# EAGLE library part SIM908 (library sim908)
SIMcom GSM/GPS module
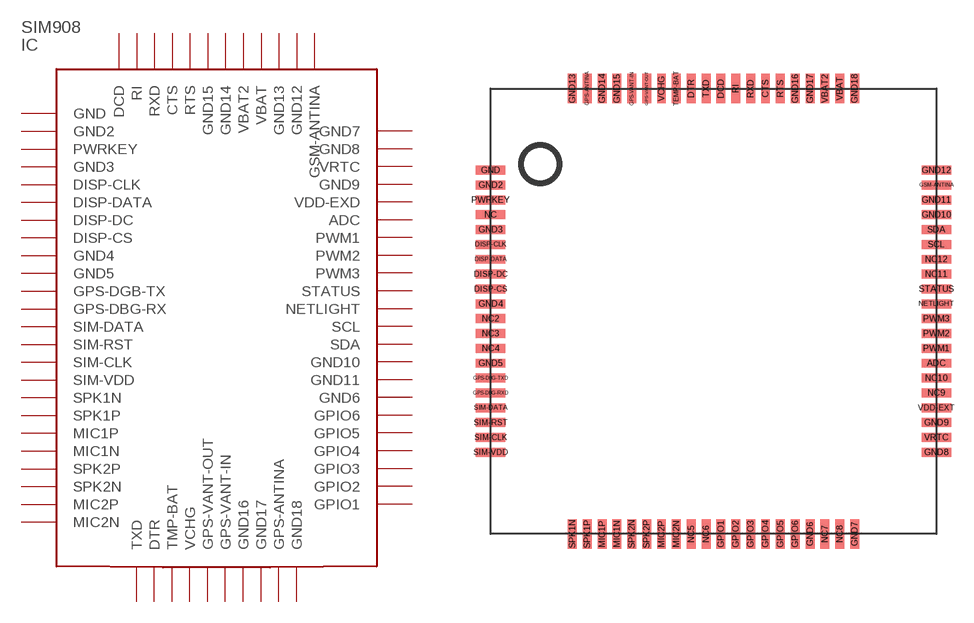
[diagram p0: symbol with the pads of SIM908; footprint SIM908]

Designator prefix IC

## SIM908  [SIM908]
ADC  ADC
CTS  CTS
DCD  DCD
DISP-CLK  DISP-CLK
DISP-CS  DISP-CS
DISP-DATA  DISP-DATA
DISP-DC  DISP-DC
DTR  DTR
GND  GND
GND2  GND2
GND3  GND3
GND4  GND4
GND5  GND5
GND6  GND6
GND7  GND7
GND8  GND8
GND9  GND9
GND10  GND10
GND11  GND11
GND12  GND12
GND13  GND13
GND14  GND14
GND15  GND15
GND16  GND16
GND17  GND17
GND18  GND18
GPIO1  GPIO1
GPIO2  GPIO2
GPIO3  GPIO3
GPIO4  GPIO4
GPIO5  GPIO5
GPIO6  GPIO6
GPS-ANTINA  GPS-ANTINA
GPS-DBG-RXD  GPS-DBG-RX
GPS-DBG-TXD  GPS-DGB-TX
GPS-VANT-IN  GPS-VANT-IN
GPS-VANT-OUT  GPS-VANT-OUT
GSM-ANTINA  GSM-ANTINA
MIC1N  MIC1N
MIC1P  MIC1P
MIC2N  MIC2N
MIC2P  MIC2P
NETLIGHT  NETLIGHT
PWM1  PWM1
PWM2  PWM2
PWM3  PWM3
PWRKEY  PWRKEY
RI  RI
RTS  RTS
RXD  RXD
SCL  SCL
SDA  SDA
SIM-CLK  SIM-CLK
SIM-DATA  SIM-DATA
SIM-RST  SIM-RST
SIM-VDD  SIM-VDD
SPK1N  SPK1N
SPK1P  SPK1P
SPK2N  SPK2N
SPK2P  SPK2P
STATUS  STATUS
TEMP-BAT  TMP-BAT
TXD  TXD
VBAT  VBAT
VBAT2  VBAT2
VCHG  VCHG
VDD-EXT  VDD-EXD
VRTC  VRTC

## Footprint SIM908 (pad centres in mm)
smd 2 x 0.6: ADC 15.24,-4.53; DISP-CLK -14.76,3.47; DISP-CS -14.76,0.47; DISP-DATA -14.76,2.47; DISP-DC -14.76,1.47; GND -14.76,8.47; GND2 -14.76,7.47; GND3 -14.76,4.47; GND4 -14.76,-0.53; GND5 -14.76,-4.53; GND8 15.24,-10.53; GND9 15.24,-8.53; GND10 15.24,5.47; GND11 15.24,6.47; GND12 15.24,8.47; GPS-DBG-RXD -14.76,-6.53; GPS-DBG-TXD -14.76,-5.53; GSM-ANTINA 15.24,7.47; NC -14.76,5.47; NC2 -14.76,-1.53; NC3 -14.76,-2.53; NC4 -14.76,-3.53; NC9 15.24,-6.53; NC10 15.24,-5.53; NC11 15.24,1.47; NC12 15.24,2.47; NETLIGHT 15.24,-0.53; PWM1 15.24,-3.53; PWM2 15.24,-2.53; PWM3 15.24,-1.53; PWRKEY -14.76,6.47; SCL 15.24,3.47; SDA 15.24,4.47; SIM-CLK -14.76,-9.53; SIM-DATA -14.76,-7.53; SIM-RST -14.76,-8.53; SIM-VDD -14.76,-10.53; STATUS 15.24,0.47; VDD-EXT 15.24,-7.53; VRTC 15.24,-9.53
smd 0.6 x 2: CTS 3.74,13.97; DCD 0.74,13.97; DTR -1.26,13.97; GND6 6.74,-16.03; GND7 9.74,-16.03; GND13 -9.26,13.97; GND14 -7.26,13.97; GND15 -6.26,13.97; GND16 5.74,13.97; GND17 6.74,13.97; GND18 9.74,13.97; GPIO1 0.74,-16.03; GPIO2 1.74,-16.03; GPIO3 2.74,-16.03; GPIO4 3.74,-16.03; GPIO5 4.74,-16.03; GPIO6 5.74,-16.03; GPS-ANTINA -8.26,13.97; GPS-VANT-IN -5.26,13.97; GPS-VANT-OUT -4.26,13.97; MIC1N -6.26,-16.03; MIC1P -7.26,-16.03; MIC2N -2.26,-16.03; MIC2P -3.26,-16.03; NC5 -1.26,-16.03; NC6 -0.26,-16.03; NC7 7.74,-16.03; NC8 8.74,-16.03; RI 1.74,13.97; RTS 4.74,13.97; RXD 2.74,13.97; SPK1N -9.26,-16.03; SPK1P -8.26,-16.03; SPK2N -5.26,-16.03; SPK2P -4.26,-16.03; TEMP-BAT -2.26,13.97; TXD -0.26,13.97; VBAT 8.74,13.97; VBAT2 7.74,13.97; VCHG -3.26,13.97